# Altium footprint library PCB Library.PcbLib: 18 footprints (part 2 of 2)
Each footprint in its own frame and in the unit in brackets; x right, y up, seen from the top. Pads: shape width x height; smd on the part's side, far side on the other; paste and mask are expansions set on the pad; w line width, h text height; cw(c..) or ccw(c..) is an arc to the next point about the centre after c.
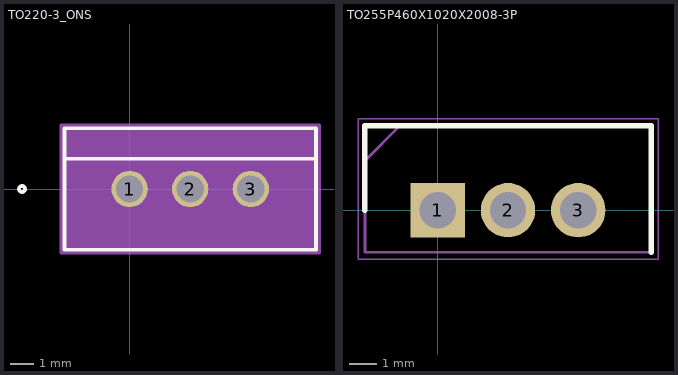
[diagram p1: the footprints below, top view; thin cyan lines are the x and y axes]

## TO220-3_ONS [mil]
pads (3):
  round 60 / inner round 60 / far side round 65 hole 45 paste-32.5 mask+0: 1(0,0) 2(100,0) 3(200,0)
Top Overlay:
  circle w6: c-177.5,0 r5
  lines w6: -102.5,50 302.5,50 ; -107.5,-100 307.5,-100 307.5,100 -107.5,100 -107.5,-100
Mechanical 13:
  circle w0: c-92.5,0 r5
  lines w1: -102.5,45 302.5,45 ; -102.5,-95 302.5,-95 302.5,95 -102.5,95 -102.5,-95
  text "TAB" at 81.25,57.5 h25
Mechanical 15:
  region: 312.5,105 -112.5,105 -112.5,-105 312.5,-105
  lines w6: -112.5,-105 -112.5,105 312.5,105 312.5,-105 -112.5,-105
3D body "TO220-3_ONS.step": height 665, standoff -240, extent -102.52,-95 302.52,95

## TO255P460X1020X2008-3P [mm]
pads (3):
  rect 1.98x1.98 hole 1.32: 1(0,0)
  round 1.98 hole 1.32: 2(2.55,0) 3(5.1,0)
Top Overlay:
  lines w0.2: -2.65,0 -2.65,3.07 7.75,3.07 7.75,-1.53
Mechanical 13:
  lines w0.1: -2.65,1.795 -1.375,3.07 ; -2.65,-1.53 -2.65,3.07 7.75,3.07 7.75,-1.53 -2.65,-1.53
Mechanical 15:
  lines w0.05: -2.9,-1.78 -2.9,3.32 8,3.32 8,-1.78 -2.9,-1.78
3D body "L7805CV.stp": height 19.22, standoff -18.2, extent -2.55,-1.53 7.65,3.07